# EAGLE library part CONN_03X2 (library MISC)
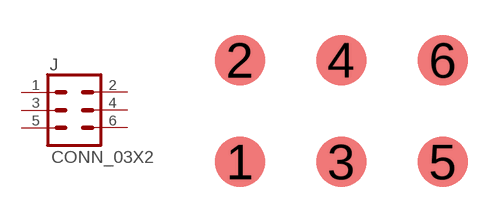
[diagram p0: symbol with the pads of PAD_05_03X2_TP; footprint PAD_05_03X2_TP]

Designator prefix J

## CONN_03X2  [PAD_05_03X2_TP]
1  1
2  2
3  3
4  4
5  5
6  6

## Footprint PAD_05_03X2_TP (pad centres in mm)
smd 1.27 x 1.27: 1 -2.54,-1.27; 2 -2.54,1.27; 3 0,-1.27; 4 0,1.27; 5 2.54,-1.27; 6 2.54,1.27